# Altium schematic symbol library SAMTEC_EHF.SchLib: 3 symbols
Pins are listed as number, name and electrical type; pins without a type are passive.

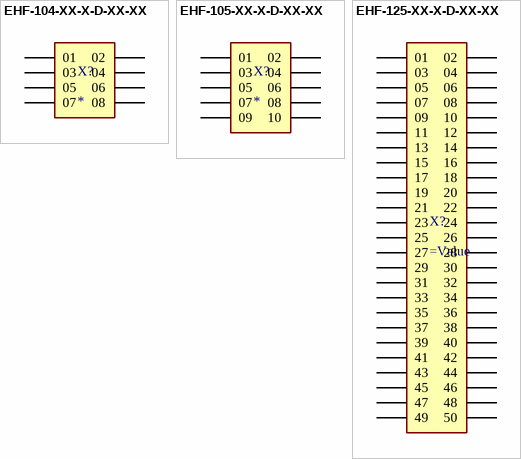
[diagram p0: symbols EHF-104-XX-X-D-XX-XX to EHF-125-XX-X-D-XX-XX]

## EHF-104-XX-X-D-XX-XX
designator X?
pins: 01, 02, 03, 04, 05, 06, 07, 08

## EHF-105-XX-X-D-XX-XX
designator X?
pins: 01, 02, 03, 04, 05, 06, 07, 08, 09, 10

## EHF-125-XX-X-D-XX-XX
designator X?
pins: 01, 02, 03, 04, 05, 06, 07, 08, 09, 10, 11, 12, 13, 14, 15, 16, 17, 18, 19, 20, 21, 22, 23, 24, 25, 26, 27, 28, 29, 30, 31, 32, 33, 34, 35, 36, 37, 38, 39, 40, 41, 42, 43, 44, 45, 46, 47, 48, 49, 50